# EAGLE library part SHIELD_MEGA (library LaCoolCo_Library)
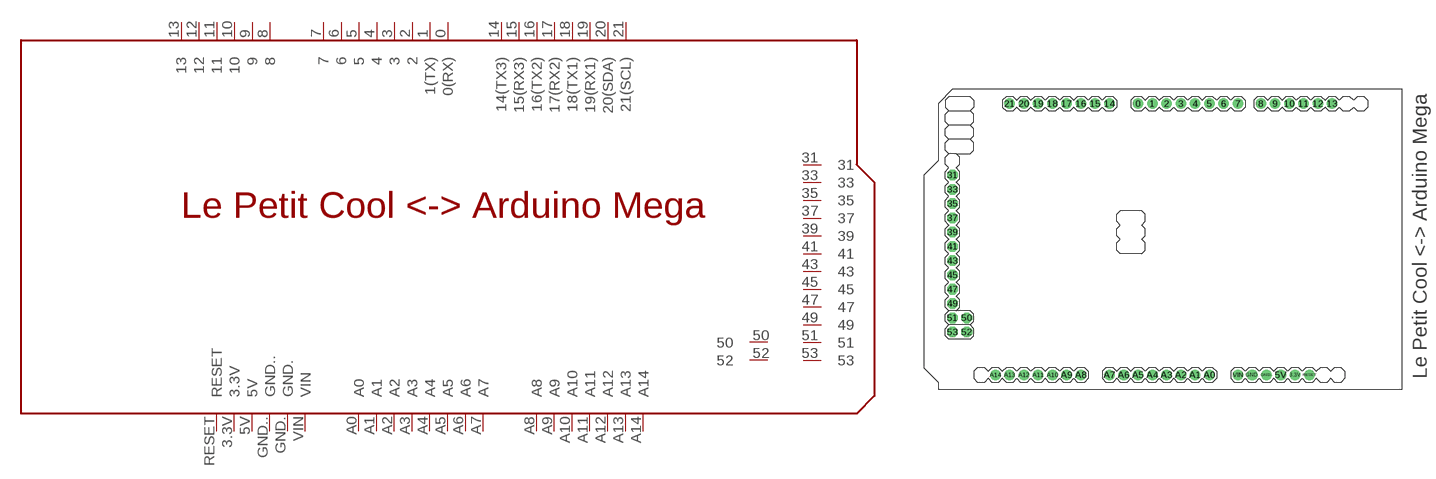
[diagram p2: symbol with the pads of SHIELD_MEGA; footprint SHIELD_MEGA]

Designator prefix PCB

## SHIELD_MEGA  [SHIELD_MEGA]
0  0(RX)
1  1(TX)
2  2
3  3
3.3V  3.3V
4  4
5  5
5V  5V
6  6
7  7
8  8
9  9
10  10
11  11
12  12
13  13
14  14(TX3)
15  15(RX3)
16  16(TX2)
17  17(RX2)
18  18(TX1)
19  19(RX1)
20  20(SDA)
21  21(SCL)
31  31
33  33
35  35
37  37
39  39
41  41
43  43
45  45
47  47
49  49
50  50
51  51
52  52
53  53
A0  A0
A1  A1
A2  A2
A3  A3
A4  A4
A5  A5
A6  A6
A7  A7
A8  A8
A9  A9
A10  A10
A11  A11
A12  A12
A13  A13
A14  A14
GND.  GND.
GND..  GND..
RESET  RESET
VIN  VIN

## Footprint SHIELD_MEGA (pad centres in mm)
Footprint for representing an Arduino Mega board in an EAGLE schematic. Created by Dave Young for Element14. More EAGLE documentation at: http://www.element14.com/community/community/knode/cadsoft_eagle
drill 1.016 pad 1.88: 0 38.1,-2.54; 1 40.64,-2.54; 2 43.18,-2.54; 3 45.72,-2.54; 3.3V 66.04,-50.8; 4 48.26,-2.54; 5 50.8,-2.54; 5V 63.5,-50.8; 6 53.34,-2.54; 7 55.88,-2.54; 8 59.944,-2.54; 9 62.484,-2.54; 10 65.024,-2.54; 11 67.564,-2.54; 12 70.104,-2.54; 13 72.644,-2.54; 14 33.02,-2.54; 15 30.48,-2.54; 16 27.94,-2.54; 17 25.4,-2.54; 18 22.86,-2.54; 19 20.32,-2.54; 20 17.78,-2.54; 21 15.24,-2.54; A0 50.8,-50.8; A1 48.26,-50.8; A2 45.72,-50.8; A3 43.18,-50.8; A4 40.64,-50.8; A5 38.1,-50.8; A6 35.56,-50.8; A7 33.02,-50.8; A8 27.94,-50.8; A9 25.4,-50.8; A10 22.86,-50.8; A11 20.32,-50.8; A12 17.78,-50.8; A13 15.24,-50.8; A14 12.7,-50.8; GND. 58.42,-50.8; GND.. 60.96,-50.8; RESET 68.58,-50.8; VIN 55.88,-50.8
drill 1.016 pad 1.88 octagon: 31 5.08,-15.24; 33 5.08,-17.78; 35 5.08,-20.32; 37 5.08,-22.86; 39 5.08,-25.4; 41 5.08,-27.94; 43 5.08,-30.48; 45 5.08,-33.02; 47 5.08,-35.56; 49 5.08,-38.1; 50 7.62,-40.64; 51 5.08,-40.64; 52 7.62,-43.18; 53 5.08,-43.18